# Altium footprint library CA_2312_H20.PcbLib: 1 footprints
Each footprint in its own frame and in the unit in brackets; x right, y up, seen from the top. Pads: shape width x height; smd on the part's side, far side on the other; paste and mask are expansions set on the pad; w line width, h text height; cw(c..) or ccw(c..) is an arc to the next point about the centre after c.
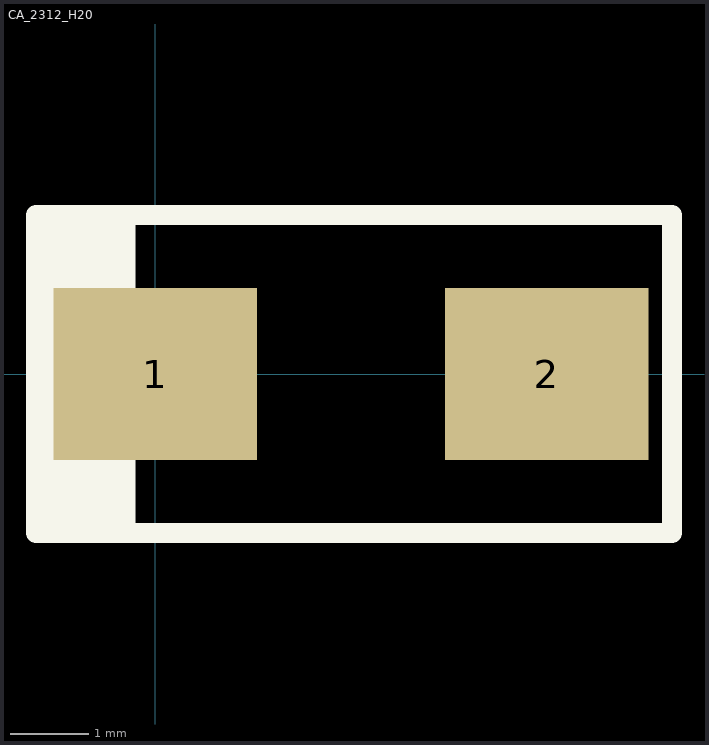
[diagram p0: the footprint, top view; thin cyan lines are the x and y axes]

## CA_2312_H20 [mm] "Body 6.0 x 3.2 mm (LxW typ), EIA 6032-20"
height 2.8
pads (2):
  rect 2.6x2.2 smd: 1(0,0) 2(5,0)
Top Overlay:
  rectangle: -1.524,-2.032 -0.254,2.032
  lines w0.254: 0,0 0.508,0 ; 0.254,-0.254 0.254,0.254 ; -1.524,-2.032 6.604,-2.032 6.604,2.032 -1.524,2.032 -1.524,-2.032
3D body: height 2.79, standoff -0.04, extent -1.303,-1.756 6.294,1.757